# Altium footprint library PartsDatabaseV12.PcbLib: 97 footprints (part 7 of 7)
Each footprint in its own frame and in the unit in brackets; x right, y up, seen from the top. Pads: shape width x height; smd on the part's side, far side on the other; paste and mask are expansions set on the pad; w line width, h text height; cw(c..) or ccw(c..) is an arc to the next point about the centre after c.
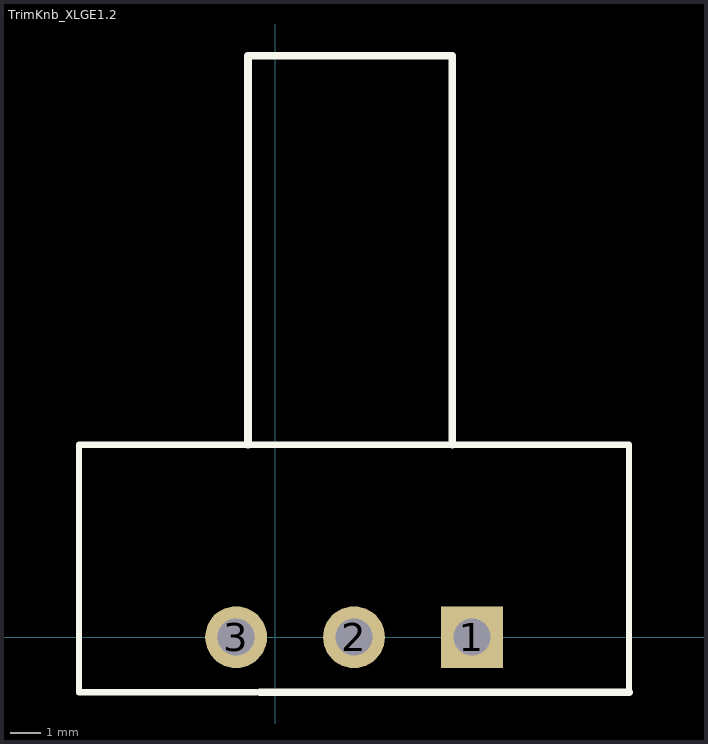
[diagram p6: the footprint, top view; thin cyan lines are the x and y axes]

## TrimKnb_XLGE1.2 [mm] "Variable Resistor, Thru-Hole, 3 Leads, knob"
pads (3):
  rect 2x2 hole 1.2: 1(6.35,0)
  round 2 hole 1.2: 2(2.54,0) 3(-1.27,0)
Top Overlay:
  lines w0.2: -0.635,-1.778 -2.064,-1.778 -4.921,-1.778 -6.35,-1.778 -6.35,6.223 11.43,6.223 11.43,-1.651
  lines w0.254: -0.889,6.223 -0.889,18.796 5.715,18.796 5.715,6.223 ; -0.508,-1.778 11.43,-1.778